# Altium schematic symbol library GC0307.SchLib: 1 symbol
Pins are listed as number, name and electrical type; pins without a type are passive.

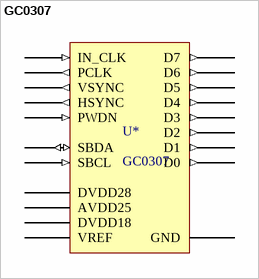
[diagram p0: symbol GC0307]

## GC0307
designator U*
footprint BGA20C60P5X4_329X276X78 (BGA, 20-Leads, Body 3,29x2,76mmx0,78mm, Pitch 0,60mm)
pins: A1 AVDD25 (power), A2 VREF (power), A3 SBDA (io), A4 SBCL (in), A5 D7 (out), B1 GND (power), B2 PWDN (in), B3 HSYNC (out), B4 D6 (out), B5 D5 (out), C1 VSYNC (out), C2 D0 (out), C3 D3 (out), C4 D4 (out), C5 PCLK (out), D1 DVDD28, D2 D1 (out), D3 D2 (out), D4 DVDD18, D5 IN_CLK (in)